# EAGLE library part MMA8652FC (library anykey)
Freescale accelerometer I2C
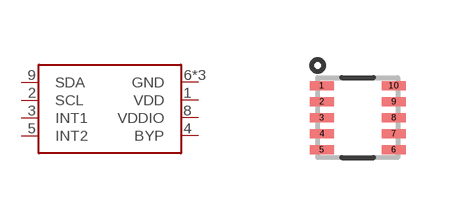
[diagram p23: symbol with the pads of MMA8652FC; footprint MMA8652FC]

Designator prefix -

## MMA8652FC  [MMA8652FC]
1  VDD  pwr
2  SCL
3  INT1
4  BYP
5  INT2
6  GND  pwr
7  GND  pwr
8  VDDIO  pwr
9  SDA
10  GND  pwr

## Footprint MMA8652FC (pad centres in mm)
smd 0.6 x 0.225: 1 -0.9,0.8; 2 -0.9,0.4; 3 -0.9,0; 4 -0.9,-0.4; 5 -0.9,-0.8; 6 0.9,-0.8; 7 0.9,-0.4; 8 0.9,0; 9 0.9,0.4; 10 0.9,0.8